# Altium schematic symbol library Diodes-Schottky.SchLib: 6 symbols
Pins are listed as number, name and electrical type; pins without a type are passive.

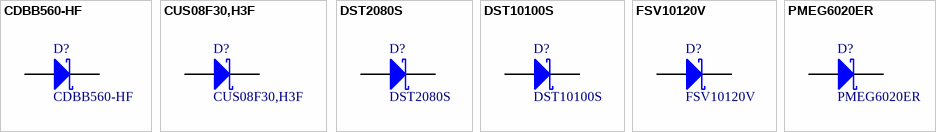
[diagram p0: symbols CDBB560-HF to PMEG6020ER]

## CDBB560-HF
designator D?
Manufacturer: Comchip Technology; PackageDescription: DO-214-AA/SMB; 2 C-Bend Leads; Body 5.3 x 3.6 mm, inc. leads (LxW); PackageReference: DO-214AA; PartNumber: CDBB560-HF; Mounting Technology: Surface Mount
simulation model SKYDIODE (Diode)
signal-integrity model D Schottky
footprint DO-214AA (DO-214-AA/SMB; 2 C-Bend Leads; Body 5.3 x 3.6 mm, inc. leads (LxW))
pins: 1 A, 2 K

## CUS08F30,H3F
designator D?
Manufacturer: Toshiba; PackageReference: SOD-323; PartNumber: CUS08F30,H3F; Mounting Technology: Surface Mount
simulation model SKYDIODE (Diode)
signal-integrity model D Schottky
footprint SOD-323 (SODFL, 2-Leads, Body 1.30x2.57mm, IPC Medium Density)
pins: 1 K, 2 A

## DST2080S
designator D?
Manufacturer: Littelfuse; PackageReference: TO-277B; PartNumber: DST2080S; Mounting Technology: Surface Mount
simulation model SKYDIODE (Diode)
signal-integrity model D Schottky
footprint TO-277B
pins: 1 K, 2 A

## DST10100S
designator D?
Manufacturer: Littelfuse; PackageReference: TO-277B; PartNumber: DST10100S; Mounting Technology: Surface Mount
simulation model SKYDIODE (Diode)
signal-integrity model D Schottky
footprint TO-277B
pins: 1 K, 2 A

## FSV10120V
designator D?
Schottky Diodes & Rectifiers 10 Amp 120V Schottky Rectifier; Manufacturer: Fairchild Semiconductor; PackageReference: TO-277-3; PartNumber: FSV10120V; Mounting Technology: Surface Mount
simulation model SKYDIODE (Diode)
signal-integrity model D Schottky
footprint TO-277
pins: 1 K, 2 A

## PMEG6020ER
designator D?
PartNumber: PMEG6020ER,115; Manufacturer: NXP Semiconductors; PackageDescription: SOD, 2-Leads, Body 2.69x1.6mm; PackageReference: SOD-123W; Mounting Technology: Surface Mount
simulation model SKYDIODE (Diode)
signal-integrity model D Schottky
footprint SOD-123 (SOD, 2-Leads, Body 2.69x1.6mm)
pins: 1 K, 2 A